# Altium schematic symbol library IC.SchLib: 68 symbols
Pins are listed as number, name and electrical type; pins without a type are passive.

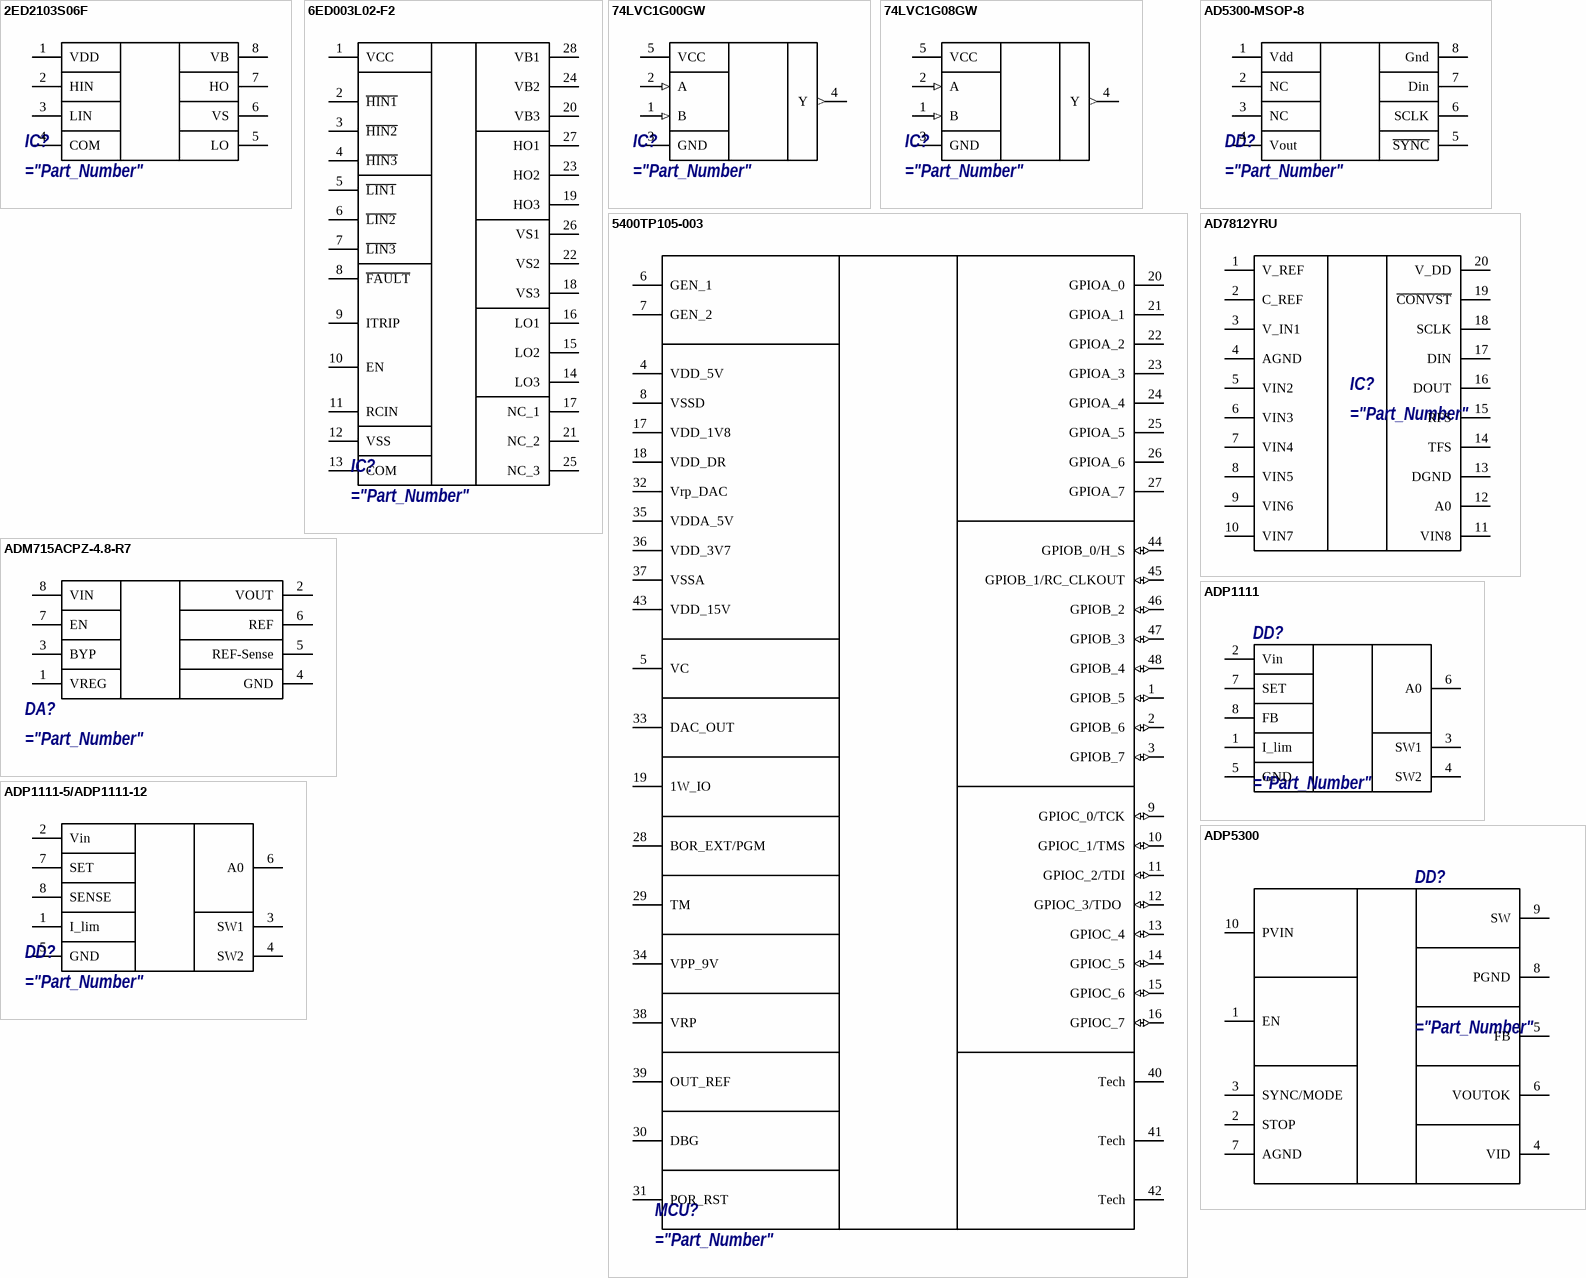
[diagram p0: symbols 2ED2103S06F to ADP5300]

## 2ED2103S06F
designator IC?
="Description"
pins: 1 VDD, 2 HIN, 3 LIN, 4 COM, 5 LO, 6 VS, 7 HO, 8 VB

## 6ED003L02-F2
designator IC?
="Description"
pins: 1 VCC, 2 ~{HIN1}, 3 ~{HIN2}, 4 ~{HIN3}, 5 ~{LIN1}, 6 ~{LIN2}, 7 ~{LIN3}, 8 ~{FAULT}, 9 ITRIP, 10 EN, 11 RCIN, 12 VSS, 13 COM, 14 LO3, 15 LO2, 16 LO1, 17 NC_1, 18 VS3, 19 HO3, 20 VB3, 21 NC_2, 22 VS2, 23 HO2, 24 VB2, 25 NC_3, 26 VS1, 27 HO1, 28 VB1

## 74LVC1G00GW
designator IC?
="Description"
pins: 1 B (in), 2 A (in), 3 GND (power), 4 Y (out), 5 VCC (power)

## 74LVC1G08GW
designator IC?
="Description"
pins: 1 B (in), 2 A (in), 3 GND (power), 4 Y (out), 5 VCC (power)

## 5400ТР105-003
designator MCU?
="Description"
pins: 1 GPIOB_5 (io) "Порт ввода-вывода микроконтроллера, группы  Б", 2 GPIOB_6 (io) "Порт ввода-вывода микроконтроллера, группы  Б", 3 GPIOB_7 (io) "Порт ввода-вывода микроконтроллера, группы  Б", 4 VDD_5V (power) "Вывод цифрового положительного напряжения питания", 5 VC "Вывод блока ФАПЧ для подключения RC-фильтра", 6 GEN_1 "Вход подключения кварцевого резонатора/вход для подачи внешней тактовой частоты", 7 GEN_2 "Вход подключения кварцевого резонатора/вход для подачи внешней тактовой частоты", 8 VSSD "Вывод цифрового отрицательного напряжения питания", 9 GPIOC_0/TCK (io) "Порт ввода-вывода микроконтроллера, группы  С", 10 GPIOC_1/TMS (io) "Порт ввода-вывода микроконтроллера, группы  С", 11 GPIOC_2/TDI (io) "Порт ввода-вывода микроконтроллера, группы  С", 12 GPIOC_3/TDO  (io) "Порт ввода-вывода микроконтроллера, группы  С", 13 GPIOC_4 (io) "Порт ввода-вывода микроконтроллера, группы  С", 14 GPIOC_5 (io) "Порт ввода-вывода микроконтроллера, группы  С", 15 GPIOC_6 (io) "Порт ввода-вывода микроконтроллера, группы  С", 16 GPIOC_7 (io) "Порт ввода-вывода микроконтроллера, группы  С", 17 VDD_1V8 "Вывод напряжения питания ядра (выходное напряжение L O-регулятора 5,0 В –> 1,8 В)", 18 VDD_DR "Вывод положительного напряжения питания универсальных портов ввода-вывода микроконтроллера 1,8 В – 5,0 В", 19 1W_IO "Вывод интерфейса 1-Wire", 20 GPIOA_0 "Порт ввода-вывода микроконтроллера, группы  А", 21 GPIOA_1 "Порт ввода-вывода микроконтроллера, группы  А", 22 GPIOA_2 "Порт ввода-вывода микроконтроллера, группы  А", 23 GPIOA_3 "Порт ввода-вывода микроконтроллера, группы  А", 24 GPIOA_4 "Порт ввода-вывода микроконтроллера, группы  А", 25 GPIOA_5 "Порт ввода-вывода микроконтроллера, группы  А", 26 GPIOA_6 "Порт ввода-вывода микроконтроллера, группы  А", 27 GPIOA_7 "Порт ввода-вывода микроконтроллера, группы  А", 28 BOR_EXT/PGM "Вход внешнего супервизора питания", 29 TM "Вход для выбора режима работы микроконтроллера", 30 DBG, 31 POR_RST "Вход для подключения внешнего конденсатора блока сброса", 32 Vrp_DAC "Вывод положительного опорного напряжения ЦАП", 33 DAC_OUT "Выход ЦАП", 34 VPP_9V "Вывод для программирования П У и конфигурационной памяти 9,0 В", 35 VDDA_5V "выходное напряжение L O-регулятора 15 В –> 5,0 В", 36 VDD_3V7 "Вывод положительного напряжения питания RC-генератора", 37 VSSA "Вывод аналогового отрицательного напряжения питания", 38 VRP "Выход масштабирующего ОУ (если ОУ включен в ходе настройки", 39 OUT_REF "Выходное напряжение ИОН в тестовом режиме", 40 Tech "Технологический вывод", 41 Tech "Технологический вывод", 42 Tech "Технологический вывод", 43 VDD_15V "Вывод положительного напряжения питания 15 В", 44 GPIOB_0/H_S (io) "Порт ввода-вывода микроконтроллера, группы  Б", 45 GPIOB_1/RC_CLKOUT (io) "Порт ввода-вывода микроконтроллера, группы  Б", 46 GPIOB_2 (io) "Порт ввода-вывода микроконтроллера, группы  Б", 47 GPIOB_3 (io) "Порт ввода-вывода микроконтроллера, группы  Б", 48 GPIOB_4 (io) "Порт ввода-вывода микроконтроллера, группы  Б"

## AD5300-MSOP-8
designator DD?
="Description"
simulation model Model Name (Model Description)
pins: 1 Vdd, 2 NC, 3 NC, 4 Vout, 5 ~{SYNC}, 6 SCLK, 7 Din, 8 Gnd

## AD7812YRU
designator IC?
="Description"
pins: 1 V_REF, 2 C_REF, 3 V_IN1, 4 AGND, 5 VIN2, 6 VIN3, 7 VIN4, 8 VIN5, 9 VIN6, 10 VIN7, 11 VIN8, 12 A0, 13 DGND, 14 TFS, 15 RFS, 16 DOUT, 17 DIN, 18 SCLK, 19 ~{CONVST}, 20 V_DD

## ADM715ACPZ-4.8-R7
designator DA?
="Description"
pins: 1 VREG, 2 VOUT, 3 BYP, 4 GND, 5 REF-Sense, 6 REF, 7 EN, 8 VIN

## ADP1111
designator DD?
="Description"
pins: 1 I_lim, 2 Vin, 3 SW1, 4 SW2, 5 GND, 6 A0, 7 SET, 8 FB

## ADP1111-5/ADP1111-12
designator DD?
="Description"
pins: 1 I_lim, 2 Vin, 3 SW1, 4 SW2, 5 GND, 6 A0, 7 SET, 8 SENSE

## ADP5300
designator DD?
="Description"
pins: 1 EN, 2 STOP, 3 SYNC/MODE, 4 VID, 5 FB, 6 VOUTOK, 7 AGND, 8 PGND, 9 SW, 10 PVIN

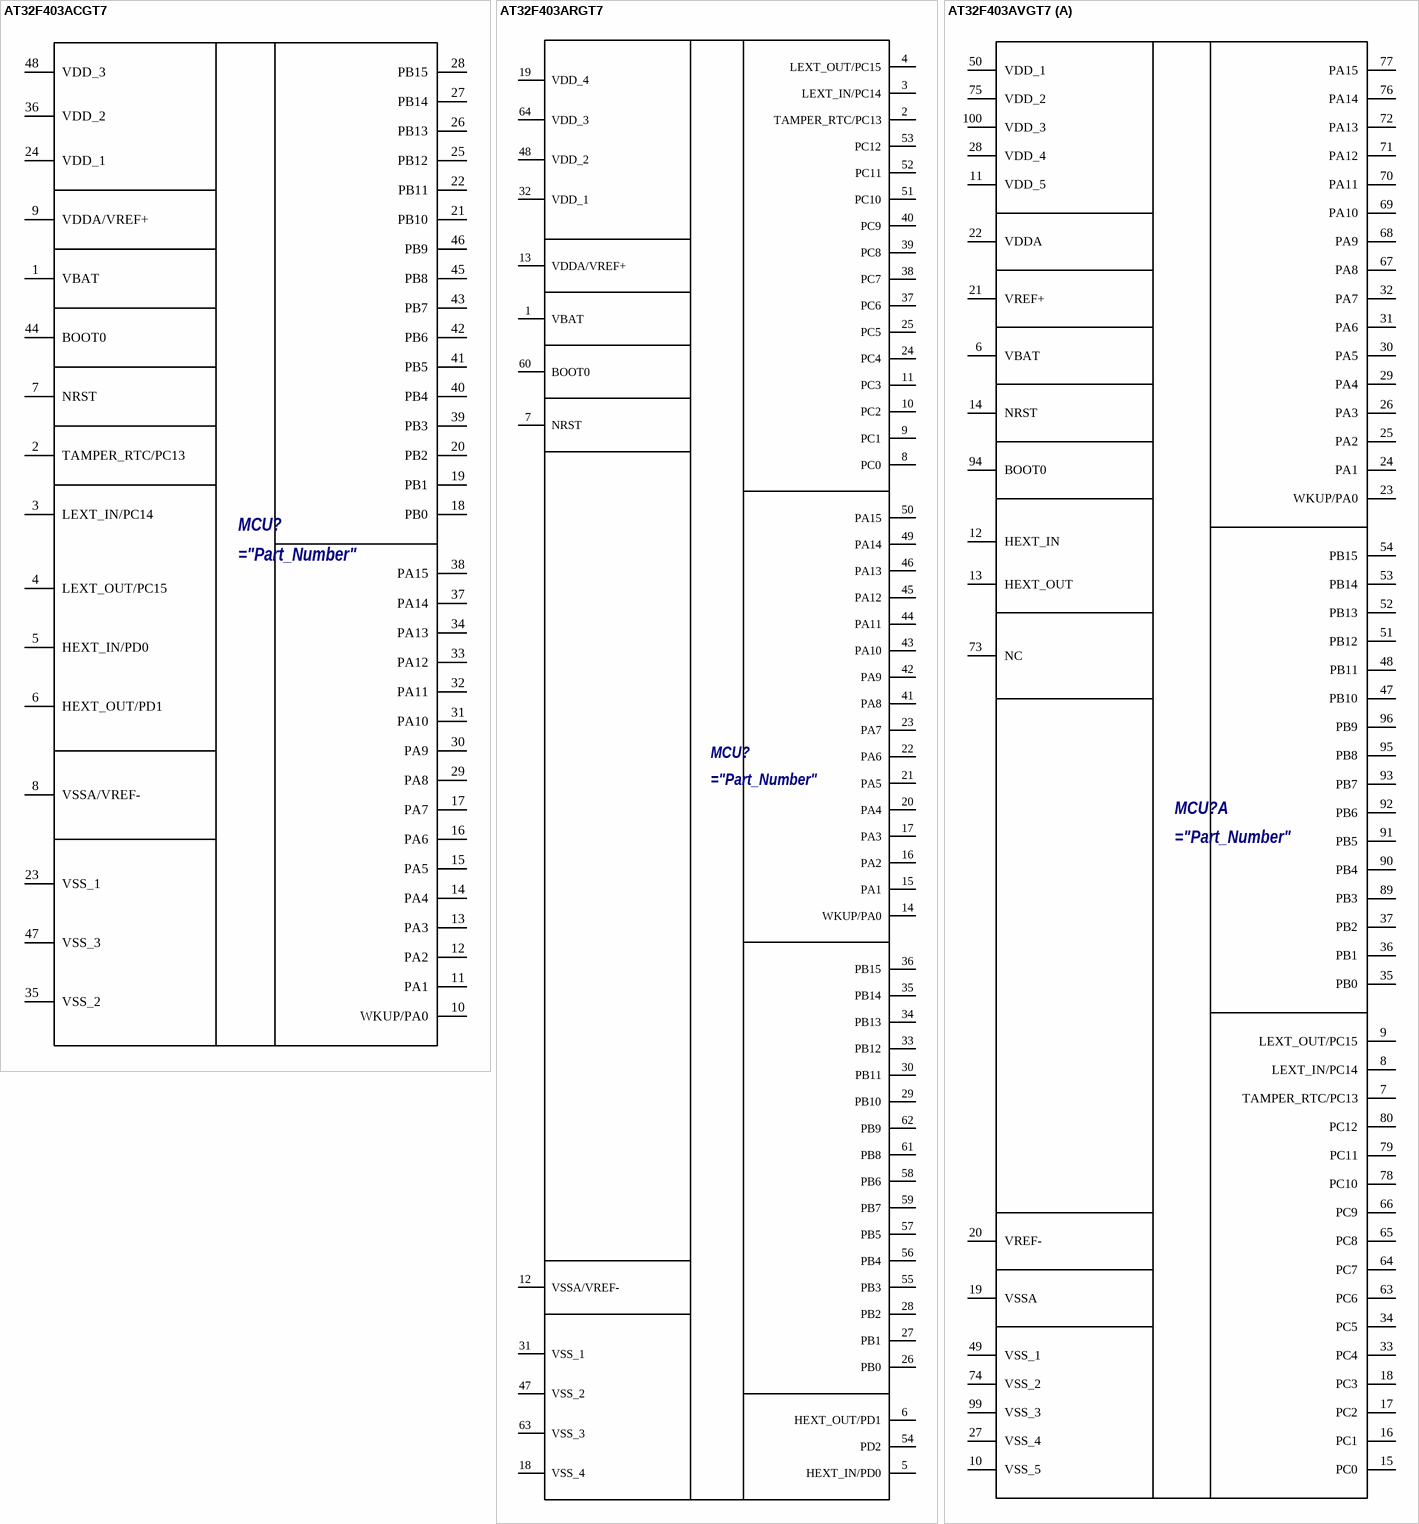
[diagram p1: symbols AT32F403ACGT7 to AT32F403AVGT7]

## AT32F403ACGT7
designator MCU?
="Description"
pins: 1 VBAT, 2 TAMPER_RTC/PC13, 3 LEXT_IN/PC14, 4 LEXT_OUT/PC15, 5 HEXT_IN/PD0, 6 HEXT_OUT/PD1, 7 NRST, 8 VSSA/VREF-, 9 VDDA/VREF+, 10 WKUP/PA0, 11 PA1, 12 PA2, 13 PA3, 14 PA4, 15 PA5, 16 PA6, 17 PA7, 18 PB0, 19 PB1, 20 PB2, 21 PB10, 22 PB11, 23 VSS_1, 24 VDD_1, 25 PB12, 26 PB13, 27 PB14, 28 PB15, 29 PA8, 30 PA9, 31 PA10, 32 PA11, 33 PA12, 34 PA13, 35 VSS_2, 36 VDD_2, 37 PA14, 38 PA15, 39 PB3, 40 PB4, 41 PB5, 42 PB6, 43 PB7, 44 BOOT0, 45 PB8, 46 PB9, 47 VSS_3, 48 VDD_3

## AT32F403ARGT7
designator MCU?
="Description"
pins: 1 VBAT, 2 TAMPER_RTC/PC13, 3 LEXT_IN/PC14, 4 LEXT_OUT/PC15, 5 HEXT_IN/PD0, 6 HEXT_OUT/PD1, 7 NRST, 8 PC0, 9 PC1, 10 PC2, 11 PC3, 12 VSSA/VREF-, 13 VDDA/VREF+, 14 WKUP/PA0, 15 PA1, 16 PA2, 17 PA3, 18 VSS_4, 19 VDD_4, 20 PA4, 21 PA5, 22 PA6, 23 PA7, 24 PC4, 25 PC5, 26 PB0, 27 PB1, 28 PB2, 29 PB10, 30 PB11, 31 VSS_1, 32 VDD_1, 33 PB12, 34 PB13, 35 PB14, 36 PB15, 37 PC6, 38 PC7, 39 PC8, 40 PC9, 41 PA8, 42 PA9, 43 PA10, 44 PA11, 45 PA12, 46 PA13, 47 VSS_2, 48 VDD_2, 49 PA14, 50 PA15, 51 PC10, 52 PC11, 53 PC12, 54 PD2, 55 PB3, 56 PB4, 57 PB5, 58 PB6, 59 PB7, 60 BOOT0, 61 PB8, 62 PB9, 63 VSS_3, 64 VDD_3

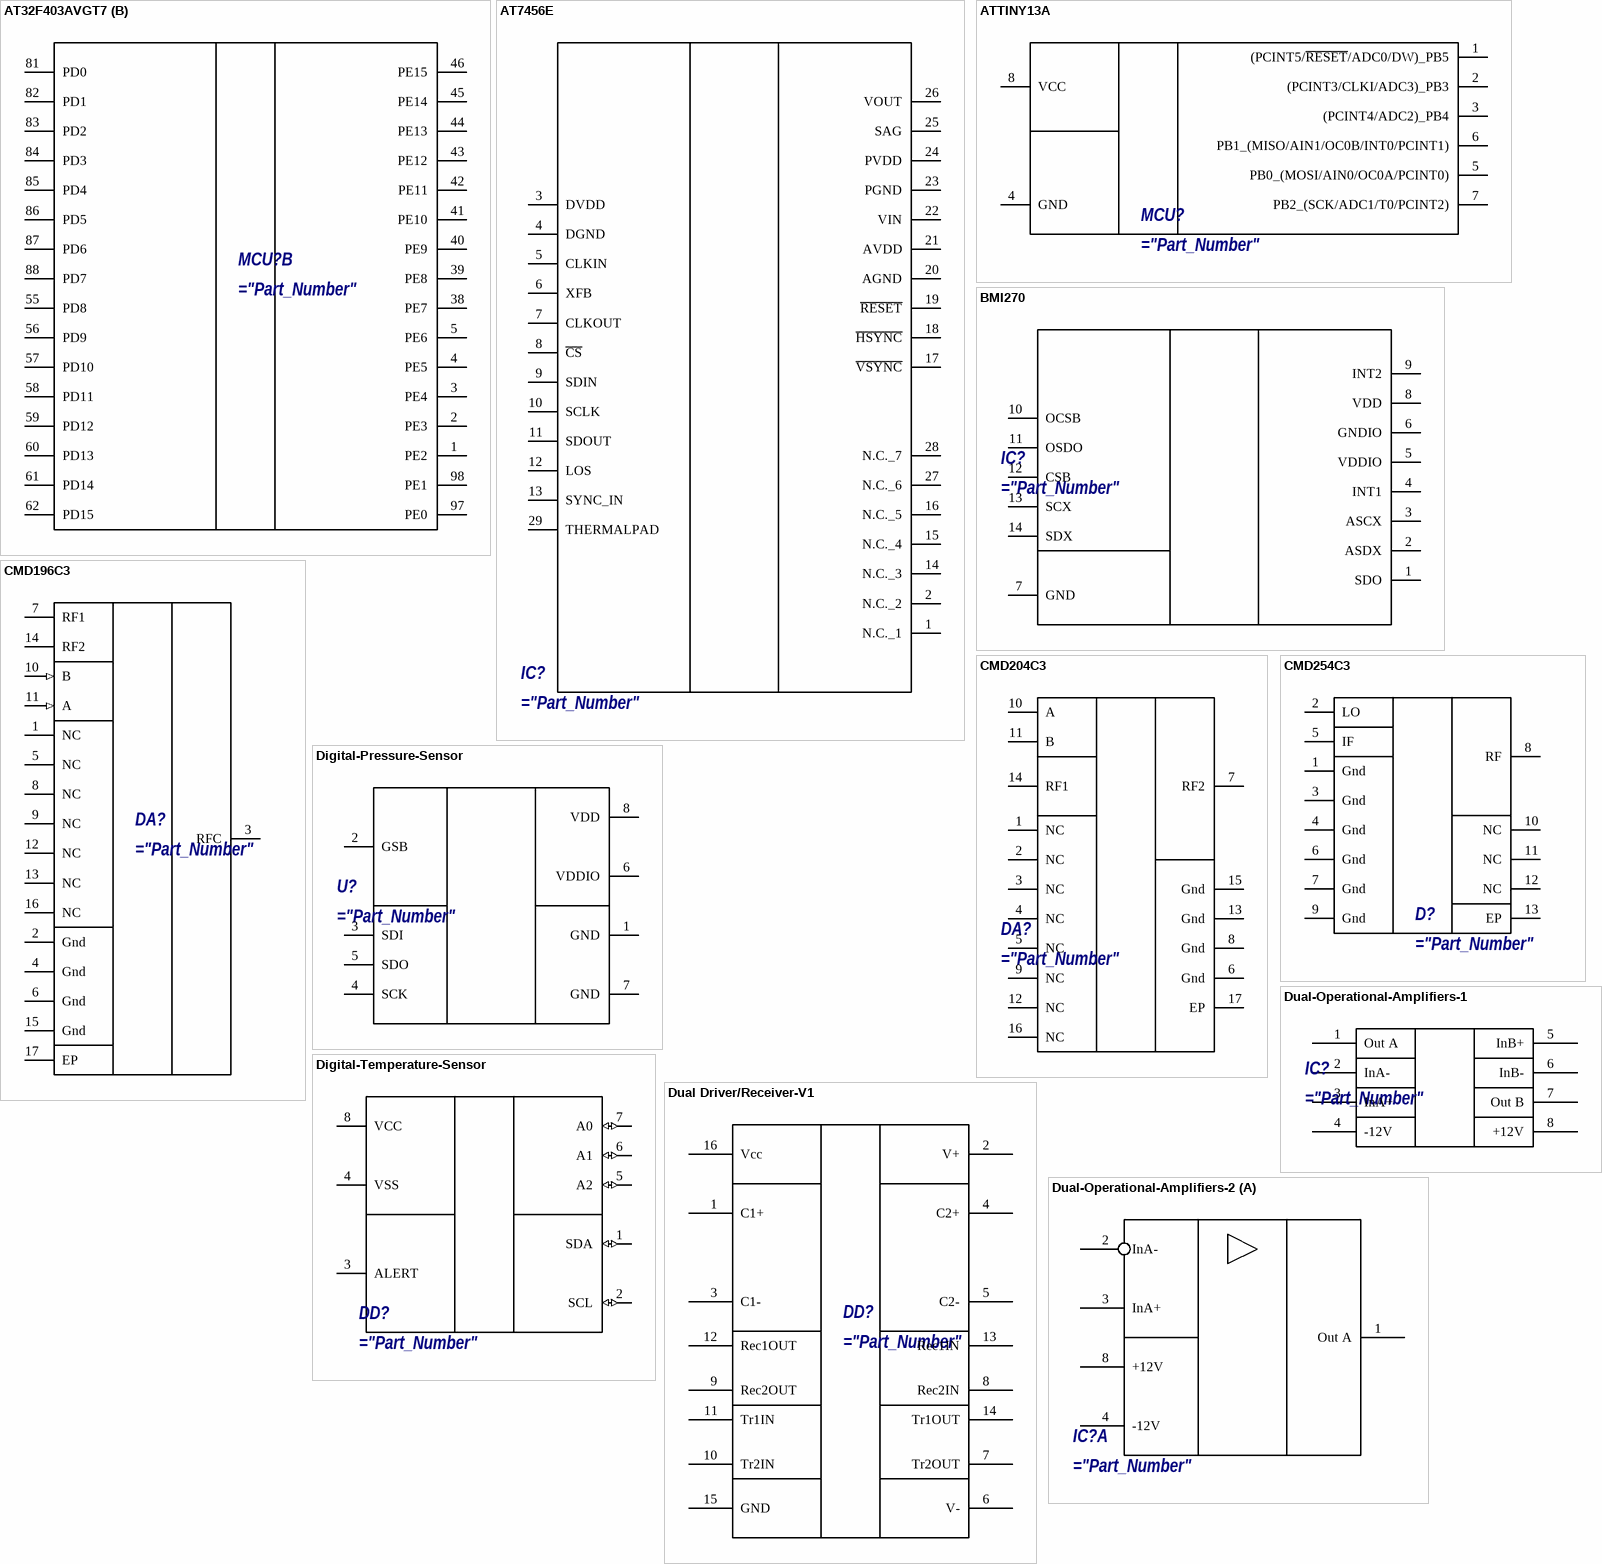
[diagram p2: symbols AT32F403AVGT7 to Dual-Operational-Amplifiers-2]

## AT32F403AVGT7
designator MCU?
="Description"
part A pins: 6 VBAT, 7 TAMPER_RTC/PC13, 8 LEXT_IN/PC14, 9 LEXT_OUT/PC15, 10 VSS_5, 11 VDD_5, 12 HEXT_IN, 13 HEXT_OUT, 14 NRST, 15 PC0, 16 PC1, 17 PC2, 18 PC3, 19 VSSA, 20 VREF-, 21 VREF+, 22 VDDA, 23 WKUP/PA0, 24 PA1, 25 PA2, 26 PA3, 27 VSS_4, 28 VDD_4, 29 PA4, 30 PA5, 31 PA6, 32 PA7, 33 PC4, 34 PC5, 35 PB0, 36 PB1, 37 PB2, 47 PB10, 48 PB11, 49 VSS_1, 50 VDD_1, 51 PB12, 52 PB13, 53 PB14, 54 PB15, 63 PC6, 64 PC7, 65 PC8, 66 PC9, 67 PA8, 68 PA9, 69 PA10, 70 PA11, 71 PA12, 72 PA13, 73 NC, 74 VSS_2, 75 VDD_2, 76 PA14, 77 PA15, 78 PC10, 79 PC11, 80 PC12, 89 PB3, 90 PB4, 91 PB5, 92 PB6, 93 PB7, 94 BOOT0, 95 PB8, 96 PB9, 99 VSS_3, 100 VDD_3
part B pins: 1 PE2, 2 PE3, 3 PE4, 4 PE5, 5 PE6, 38 PE7, 39 PE8, 40 PE9, 41 PE10, 42 PE11, 43 PE12, 44 PE13, 45 PE14, 46 PE15, 55 PD8, 56 PD9, 57 PD10, 58 PD11, 59 PD12, 60 PD13, 61 PD14, 62 PD15, 81 PD0, 82 PD1, 83 PD2, 84 PD3, 85 PD4, 86 PD5, 87 PD6, 88 PD7, 97 PE0, 98 PE1

## AT7456E
designator IC?
="Description"
pins: 1 N.C._1, 2 N.C._2, 3 DVDD, 4 DGND, 5 CLKIN, 6 XFB, 7 CLKOUT, 8 ~{CS}, 9 SDIN, 10 SCLK, 11 SDOUT, 12 LOS, 13 SYNC_IN, 14 N.C._3, 15 N.C._4, 16 N.C._5, 17 ~{VSYNC}, 18 ~{HSYNC}, 19 ~{RESET}, 20 AGND, 21 AVDD, 22 VIN, 23 PGND, 24 PVDD, 25 SAG, 26 VOUT, 27 N.C._6, 28 N.C._7, 29 THERMALPAD

## ATTINY13A
designator MCU?
="Description"
pins: 1 (PCINT5/~{RESET}/ADC0/DW)_PB5, 2 (PCINT3/CLKI/ADC3)_PB3, 3 (PCINT4/ADC2)_PB4, 4 GND, 5 PB0_(MOSI/AIN0/OC0A/PCINT0), 6 PB1_(MISO/AIN1/OC0B/INT0/PCINT1), 7 PB2_(SCK/ADC1/T0/PCINT2), 8 VCC

## BMI270
designator IC?
="Description"
pins: 1 SDO, 2 ASDX, 3 ASCX, 4 INT1, 5 VDDIO, 6 GNDIO, 7 GND, 8 VDD, 9 INT2, 10 OCSB, 11 OSDO, 12 CSB, 13 SCX, 14 SDX

## CMD196C3
designator DA?
="Description"
pins: 1 NC, 2 Gnd, 3 RFC, 4 Gnd, 5 NC, 6 Gnd, 7 RF1, 8 NC, 9 NC, 10 B (in), 11 A (in), 12 NC, 13 NC, 14 RF2, 15 Gnd, 16 NC, 17 EP

## CMD204C3
designator DA?
="Description"
pins: 1 NC, 2 NC, 3 NC, 4 NC, 5 NC, 6 Gnd, 7 RF2, 8 Gnd, 9 NC, 10 A, 11 B, 12 NC, 13 Gnd, 14 RF1, 15 Gnd, 16 NC, 17 EP

## CMD254C3
designator D?
="Description"
pins: 1 Gnd, 2 LO, 3 Gnd, 4 Gnd, 5 IF, 6 Gnd, 7 Gnd, 8 RF, 9 Gnd, 10 NC, 11 NC, 12 NC, 13 EP

## Digital-Pressure-Sensor
designator U?
="Description"
pins: 1 GND, 2 GSB, 3 SDI, 4 SCK, 5 SDO, 6 VDDIO, 7 GND, 8 VDD

## Digital-Temperature-Sensor
designator DD?
="Description"
pins: 1 SDA (io), 2 SCL (io), 3 ALERT, 4 VSS, 5 A2 (io), 6 A1 (io), 7 A0 (io), 8 VCC

## Dual Driver/Receiver-V1
designator DD?
="Description"
pins: 1 C1+, 2 V+, 3 C1-, 4 C2+, 5 C2-, 6 V-, 7 Tr2OUT, 8 Rec2IN, 9 Rec2OUT, 10 Tr2IN, 11 Tr1IN, 12 Rec1OUT, 13 Rec1IN, 14 Tr1OUT, 15 GND, 16 Vcc

## Dual-Operational-Amplifiers-1
designator IC?
="Description"
pins: 1 Out A, 2 InA-, 3 InA+, 4 -12V, 5 InB+, 6 InB-, 7 Out B, 8 +12V

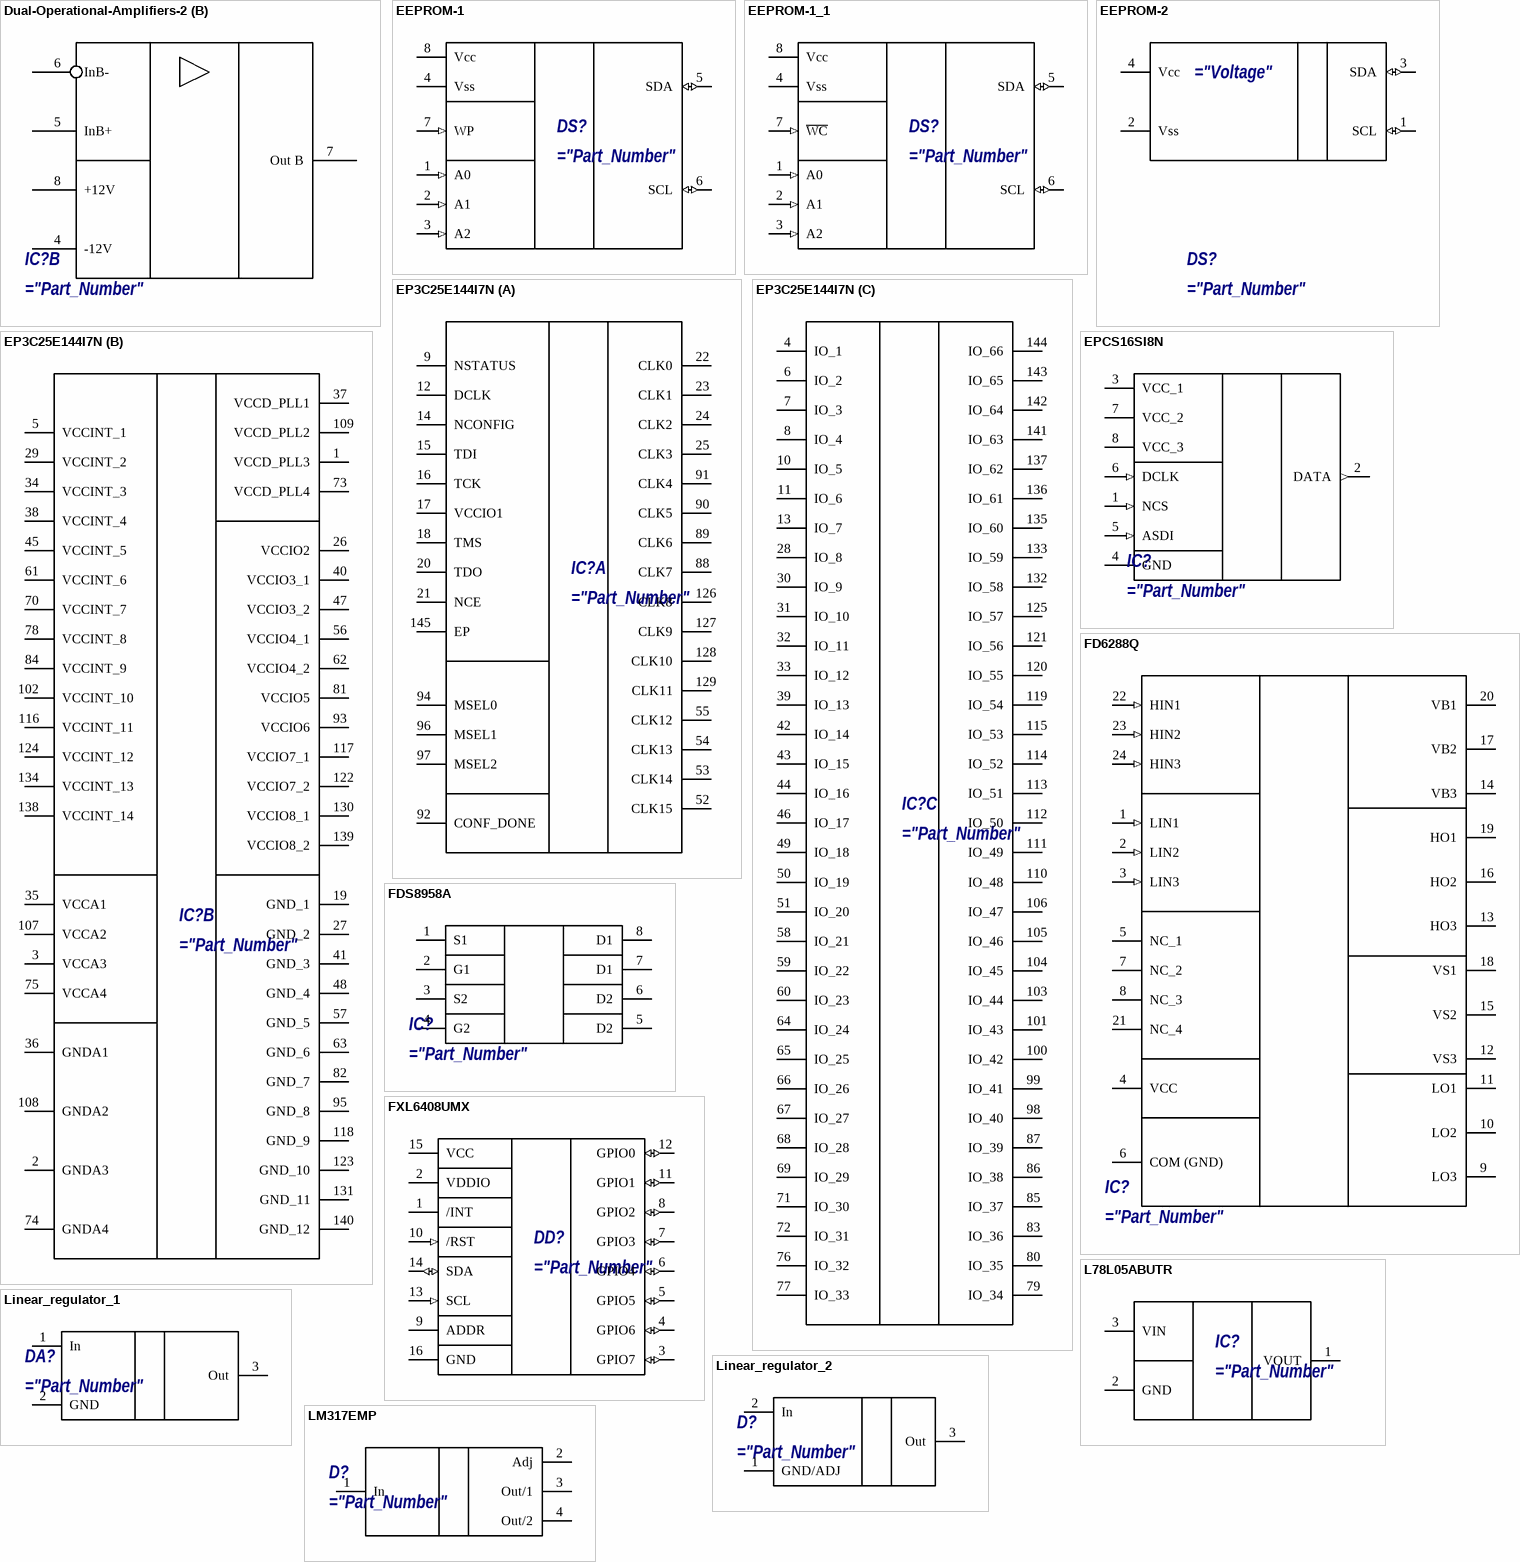
[diagram p3: symbols Dual-Operational-Amplifiers-2 to LM317EMP]

## Dual-Operational-Amplifiers-2
designator IC?
="Description"
part A pins: 1 Out A, 2 InA-, 3 InA+, 4 -12V, 8 +12V
part B pins: 4 -12V, 5 InB+, 6 InB-, 7 Out B, 8 +12V

## EEPROM-1
designator DS?
="Description"
pins: 1 A0 (in), 2 A1 (in), 3 A2 (in), 4 Vss, 5 SDA (io), 6 SCL (io), 7 WP (in), 8 Vcc

## EEPROM-1_1
designator DS?
="Description"
pins: 1 A0 (in), 2 A1 (in), 3 A2 (in), 4 Vss, 5 SDA (io), 6 SCL (io), 7 ~{WC} (in), 8 Vcc

## EEPROM-2
designator DS?
="Description"
pins: 1 SCL (io), 2 Vss, 3 SDA (io), 4 Vcc

## EP3C25E144I7N
designator IC?
="Description"
part A pins: 9 NSTATUS, 12 DCLK, 14 NCONFIG, 15 TDI, 16 TCK, 17 VCCIO1, 18 TMS, 20 TDO, 21 NCE, 22 CLK0, 23 CLK1, 24 CLK2, 25 CLK3, 52 CLK15, 53 CLK14, 54 CLK13, 55 CLK12, 88 CLK7, 89 CLK6, 90 CLK5, 91 CLK4, 92 CONF_DONE, 94 MSEL0, 96 MSEL1, 97 MSEL2, 126 CLK8, 127 CLK9, 128 CLK10, 129 CLK11, 145 EP
part B pins: 1 VCCD_PLL3, 2 GNDA3, 3 VCCA3, 5 VCCINT_1, 19 GND_1, 26 VCCIO2, 27 GND_2, 29 VCCINT_2, 34 VCCINT_3, 35 VCCA1, 36 GNDA1, 37 VCCD_PLL1, 38 VCCINT_4, 40 VCCIO3_1, 41 GND_3, 45 VCCINT_5, 47 VCCIO3_2, 48 GND_4, 56 VCCIO4_1, 57 GND_5, 61 VCCINT_6, 62 VCCIO4_2, 63 GND_6, 70 VCCINT_7, 73 VCCD_PLL4, 74 GNDA4, 75 VCCA4, 78 VCCINT_8, 81 VCCIO5, 82 GND_7, 84 VCCINT_9, 93 VCCIO6, 95 GND_8, 102 VCCINT_10, 107 VCCA2, 108 GNDA2, 109 VCCD_PLL2, 116 VCCINT_11, 117 VCCIO7_1, 118 GND_9, 122 VCCIO7_2, 123 GND_10, 124 VCCINT_12, 130 VCCIO8_1, 131 GND_11, 134 VCCINT_13, 138 VCCINT_14, 139 VCCIO8_2, 140 GND_12
part C pins: 4 IO_1, 6 IO_2, 7 IO_3, 8 IO_4, 10 IO_5, 11 IO_6, 13 IO_7, 28 IO_8, 30 IO_9, 31 IO_10, 32 IO_11, 33 IO_12, 39 IO_13, 42 IO_14, 43 IO_15, 44 IO_16, 46 IO_17, 49 IO_18, 50 IO_19, 51 IO_20, 58 IO_21, 59 IO_22, 60 IO_23, 64 IO_24, 65 IO_25, 66 IO_26, 67 IO_27, 68 IO_28, 69 IO_29, 71 IO_30, 72 IO_31, 76 IO_32, 77 IO_33, 79 IO_34, 80 IO_35, 83 IO_36, 85 IO_37, 86 IO_38, 87 IO_39, 98 IO_40, 99 IO_41, 100 IO_42, 101 IO_43, 103 IO_44, 104 IO_45, 105 IO_46, 106 IO_47, 110 IO_48, 111 IO_49, 112 IO_50, 113 IO_51, 114 IO_52, 115 IO_53, 119 IO_54, 120 IO_55, 121 IO_56, 125 IO_57, 132 IO_58, 133 IO_59, 135 IO_60, 136 IO_61, 137 IO_62, 141 IO_63, 142 IO_64, 143 IO_65, 144 IO_66

## EPCS16SI8N
designator IC?
="Description"
pins: 1 NCS (in), 2 DATA (out), 3 VCC_1, 4 GND, 5 ASDI (in), 6 DCLK (in), 7 VCC_2, 8 VCC_3

## FD6288Q
designator IC?
="Description"
pins: 1 LIN1 (in), 2 LIN2 (in), 3 LIN3 (in), 4 VCC (power), 5 NC_1, 6 COM (GND) (power), 7 NC_2, 8 NC_3, 9 LO3, 10 LO2, 11 LO1, 12 VS3, 13 HO3, 14 VB3, 15 VS2, 16 HO2, 17 VB2, 18 VS1, 19 HO1, 20 VB1, 21 NC_4, 22 HIN1 (in), 23 HIN2 (in), 24 HIN3 (in)

## FDS8958A
designator IC?
="Description"
pins: 1 S1, 2 G1, 3 S2, 4 G2, 5 D2, 6 D2, 7 D1, 8 D1

## FXL6408UMX
designator DD?
="Description"
pins: 1 /INT, 2 VDDIO, 3 GPIO7 (io), 4 GPIO6 (io), 5 GPIO5 (io), 6 GPIO4 (io), 7 GPIO3 (io), 8 GPIO2 (io), 9 ADDR, 10 /RST (in), 11 GPIO1 (io), 12 GPIO0 (io), 13 SCL (in), 14 SDA (io), 15 VCC (power), 16 GND (power)

## L78L05ABUTR
designator IC?
="Description"
pins: 1 VOUT, 2 GND, 3 VIN

## Linear_regulator_1
designator DA?
="Description"
pins: 1 In, 2 GND, 3 Out

## Linear_regulator_2
designator D?
="Description"
pins: 1 GND/ADJ, 2 In, 3 Out

## LM317EMP
designator D?
="Description"
pins: 1 In, 2 Adj, 3 Out/1, 4 Out/2

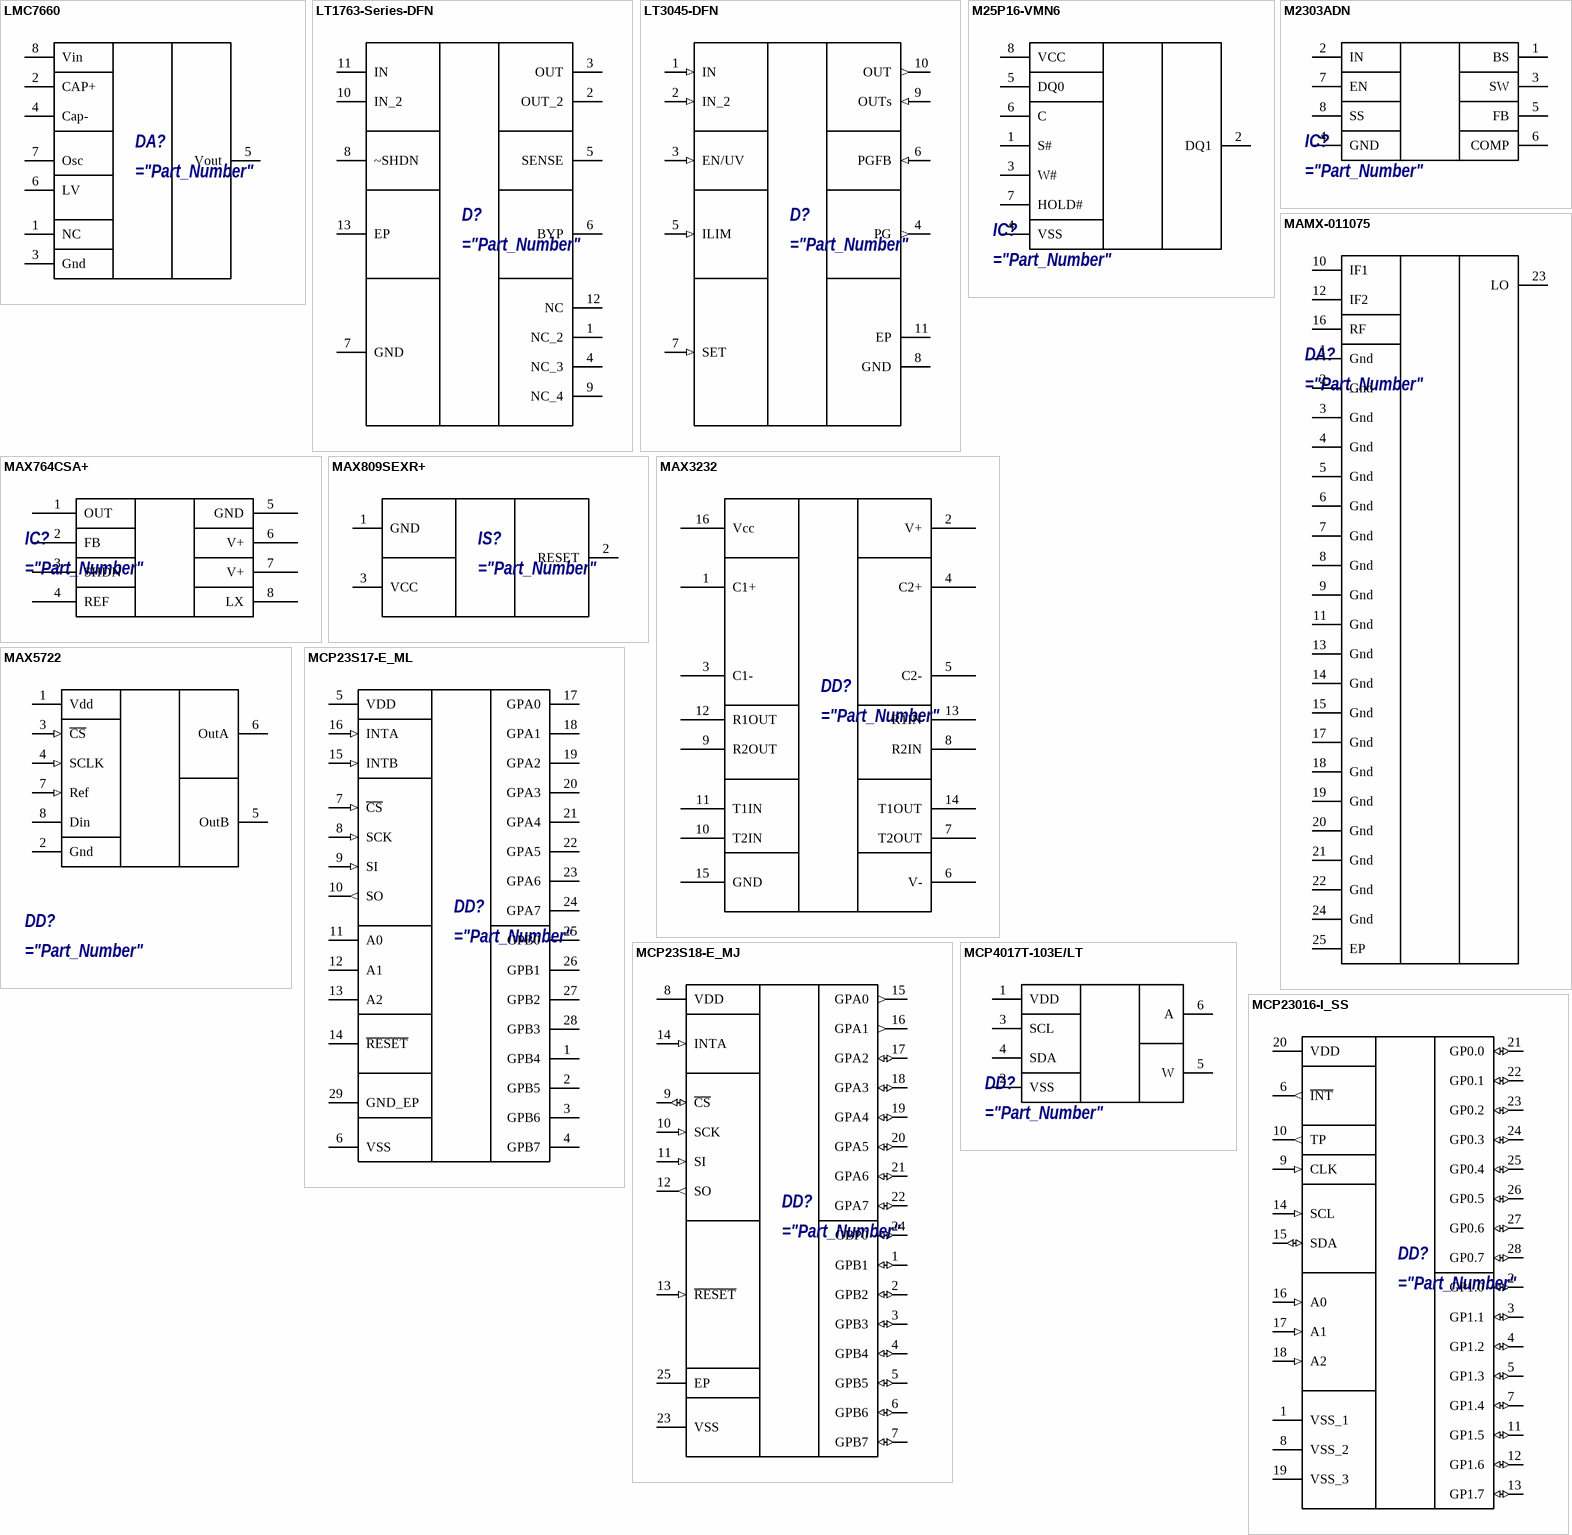
[diagram p4: symbols LMC7660 to MCP23016-I_SS]

## LMC7660
designator DA?
="Description"
simulation model Model Name (Model Description)
pins: 1 NC, 2 CAP+, 3 Gnd, 4 Cap-, 5 Vout, 6 LV, 7 Osc, 8 Vin

## LT1763-Series-DFN
designator D?
="Description"
pins: 1 NC_2, 2 OUT_2, 3 OUT, 4 NC_3, 5 SENSE, 6 BYP, 7 GND, 8 ~SHDN, 9 NC_4, 10 IN_2, 11 IN, 12 NC, 13 EP

## LT3045-DFN
designator D?
="Description"
pins: 1 IN (in), 2 IN_2 (in), 3 EN/UV (in), 4 PG (out), 5 ILIM (in), 6 PGFB (in), 7 SET (in), 8 GND, 9 OUTs (in), 10 OUT (out), 11 EP

## M25P16-VMN6
designator IC?
="Description"
pins: 1 S#, 2 DQ1, 3 W#, 4 VSS, 5 DQ0, 6 C, 7 HOLD#, 8 VCC

## M2303ADN
designator IC?
="Description"
pins: 1 BS, 2 IN, 3 SW, 4 GND, 5 FB, 6 COMP, 7 EN, 8 SS

## MAMX-011075
designator DA?
="Description"
pins: 1 Gnd, 2 Gnd, 3 Gnd, 4 Gnd, 5 Gnd, 6 Gnd, 7 Gnd, 8 Gnd, 9 Gnd, 10 IF1, 11 Gnd, 12 IF2, 13 Gnd, 14 Gnd, 15 Gnd, 16 RF, 17 Gnd, 18 Gnd, 19 Gnd, 20 Gnd, 21 Gnd, 22 Gnd, 23 LO, 24 Gnd, 25 EP

## MAX764CSA+
designator IC?
="Description"
pins: 1 OUT, 2 FB, 3 SHDN, 4 REF, 5 GND, 6 V+, 7 V+, 8 LX

## MAX809SEXR+
designator IS?
="Description"
pins: 1 GND, 2 RESET, 3 VCC

## MAX3232
designator DD?
="Description"
pins: 1 C1+, 2 V+, 3 C1-, 4 C2+, 5 C2-, 6 V-, 7 T2OUT, 8 R2IN, 9 R2OUT, 10 T2IN, 11 T1IN, 12 R1OUT, 13 R1IN, 14 T1OUT, 15 GND, 16 Vcc

## MAX5722
designator DD?
="Description"
pins: 1 Vdd, 2 Gnd, 3 ~{CS} (in), 4 SCLK (in), 5 OutB, 6 OutA, 7 Ref (in), 8 Din

## MCP23S17-E_ML
designator DD?
="Description"
pins: 1 GPB4, 2 GPB5, 3 GPB6, 4 GPB7, 5 VDD (power), 6 VSS (power), 7 ~{CS} (in), 8 SCK (in), 9 SI (in), 10 SO (out), 11 A0, 12 A1, 13 A2, 14 ~{RESET}, 15 INTB (in), 16 INTA (in), 17 GPA0, 18 GPA1, 19 GPA2, 20 GPA3, 21 GPA4, 22 GPA5, 23 GPA6, 24 GPA7, 25 GPB0, 26 GPB1, 27 GPB2, 28 GPB3, 29 GND_EP (power)

## MCP23S18-E_MJ
designator DD?
="Description"
pins: 1 GPB1 (io), 2 GPB2 (io), 3 GPB3 (io), 4 GPB4 (io), 5 GPB5 (io), 6 GPB6 (io), 7 GPB7 (io), 8 VDD (oe), 9 ~{CS} (io), 10 SCK (in), 11 SI (in), 12 SO (out), 13 ~{RESET} (in), 14 INTA (in), 15 GPA0 (out), 16 GPA1 (out), 17 GPA2 (io), 18 GPA3 (io), 19 GPA4 (io), 20 GPA5 (io), 21 GPA6 (io), 22 GPA7 (io), 23 VSS (power), 24 GBP0 (io), 25 EP

## MCP4017T-103E/LT
designator DD?
="Description"
pins: 1 VDD, 2 VSS, 3 SCL, 4 SDA, 5 W, 6 A

## MCP23016-I_SS
designator DD?
="Description"
pins: 1 VSS_1 (power), 2 GP1.0 (io), 3 GP1.1 (io), 4 GP1.2 (io), 5 GP1.3 (io), 6 ~{INT} (out), 7 GP1.4 (io), 8 VSS_2 (power), 9 CLK (in), 10 TP (out), 11 GP1.5 (io), 12 GP1.6 (io), 13 GP1.7 (io), 14 SCL (in), 15 SDA (io), 16 A0 (in), 17 A1 (in), 18 A2 (in), 19 VSS_3 (power), 20 VDD (power), 21 GP0.0 (io), 22 GP0.1 (io), 23 GP0.2 (io), 24 GP0.3 (io), 25 GP0.4 (io), 26 GP0.5 (io), 27 GP0.6 (io), 28 GP0.7 (io)

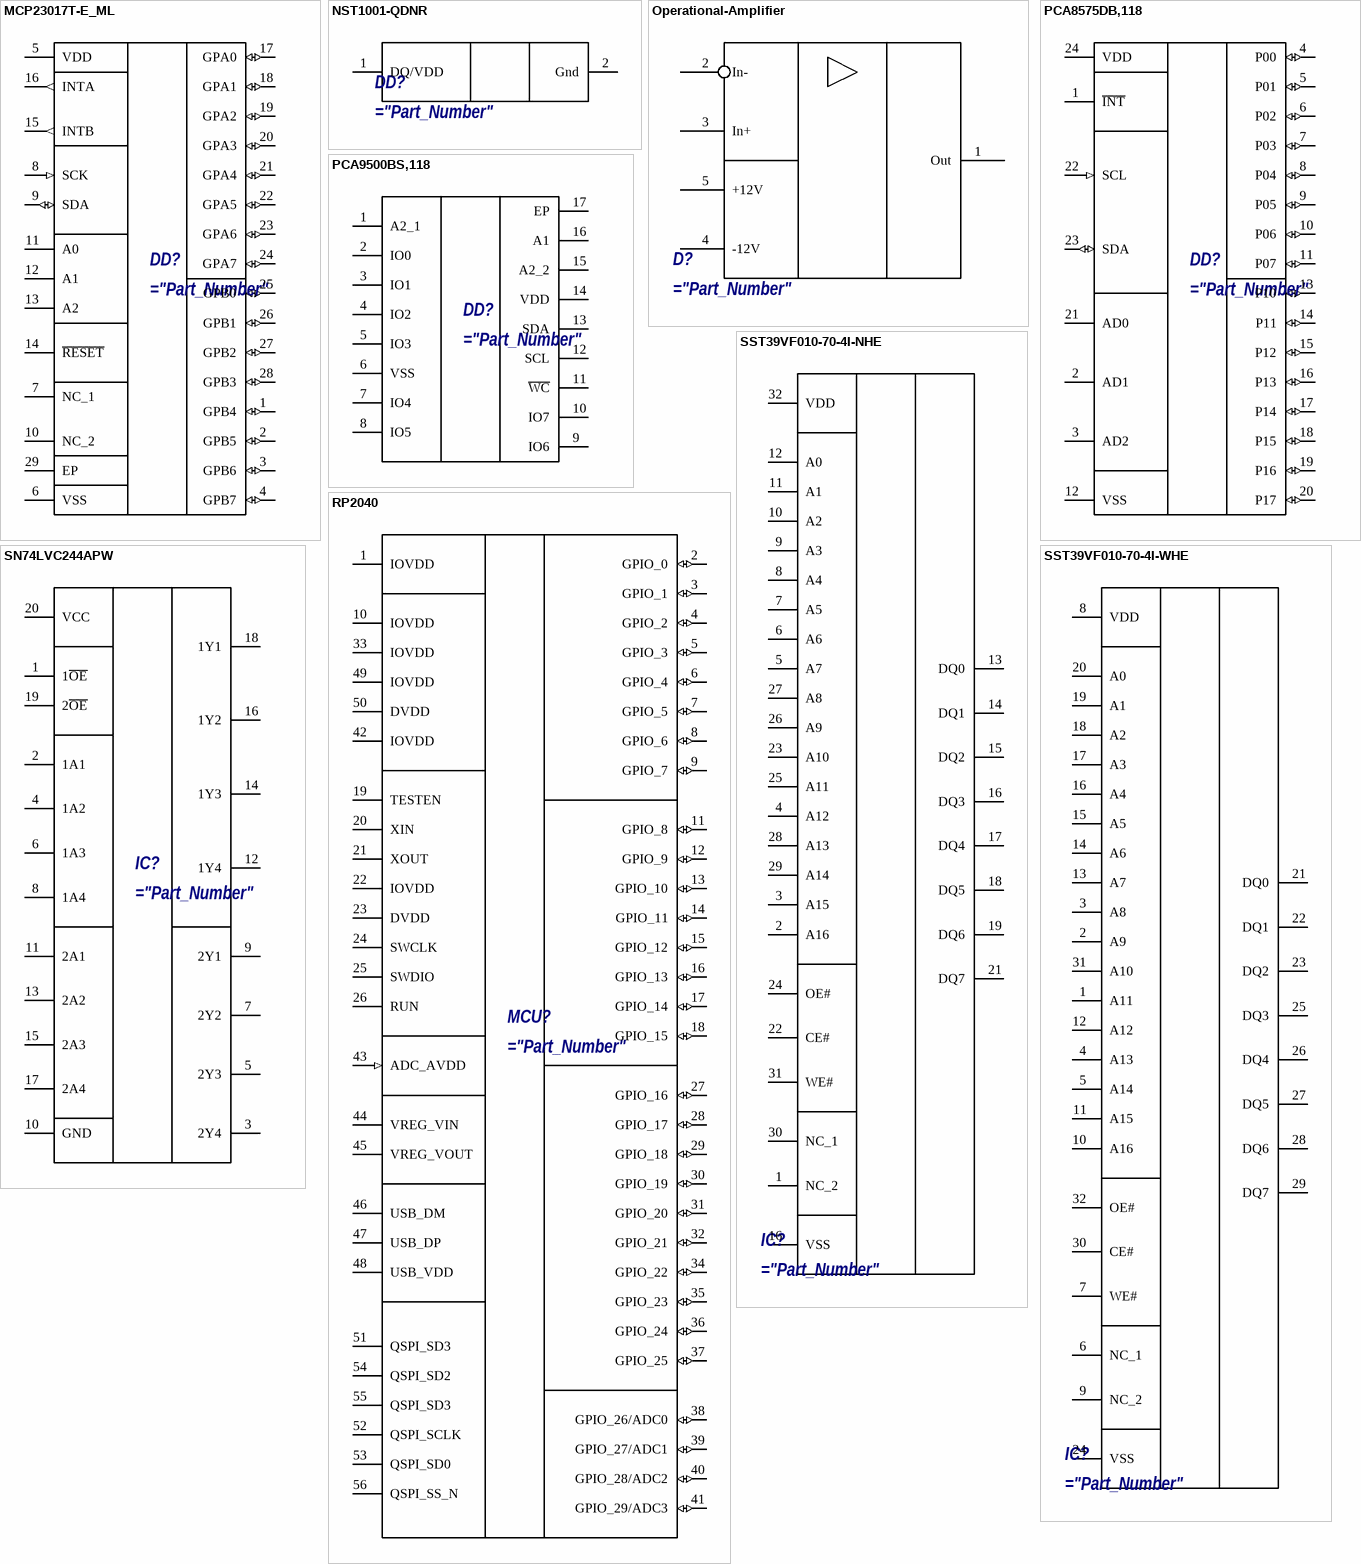
[diagram p5: symbols MCP23017T-E_ML to SST39VF010-70-4I-WHE]

## MCP23017T-E_ML
designator DD?
="Description"
pins: 1 GPB4 (io), 2 GPB5 (io), 3 GPB6 (io), 4 GPB7 (io), 5 VDD (power), 6 VSS (power), 7 NC_1, 8 SCK (in), 9 SDA (io), 10 NC_2, 11 A0, 12 A1, 13 A2, 14 ~{RESET}, 15 INTB (out), 16 INTA (out), 17 GPA0 (io), 18 GPA1 (io), 19 GPA2 (io), 20 GPA3 (io), 21 GPA4 (io), 22 GPA5 (io), 23 GPA6 (io), 24 GPA7 (io), 25 GPB0 (io), 26 GPB1 (io), 27 GPB2 (io), 28 GPB3 (io), 29 EP

## NST1001-QDNR
designator DD?
="Description"
pins: 1 DQ/VDD, 2 Gnd

## Operational-Amplifier
designator D?
="Description"
pins: 1 Out, 2 In-, 3 In+, 4 -12V, 5 +12V

## PCA8575DB,118
designator DD?
="Description"
pins: 1 ~{INT}, 2 AD1, 3 AD2, 4 P00 (io), 5 P01 (io), 6 P02 (io), 7 P03 (io), 8 P04 (io), 9 P05 (io), 10 P06 (io), 11 P07 (io), 12 VSS (power), 13 P10 (io), 14 P11 (io), 15 P12 (io), 16 P13 (io), 17 P14 (io), 18 P15 (io), 19 P16 (io), 20 P17 (io), 21 AD0, 22 SCL (in), 23 SDA (io), 24 VDD (power)

## PCA9500BS,118
designator DD?
="Description"
pins: 1 A2_1, 2 IO0, 3 IO1, 4 IO2, 5 IO3, 6 VSS, 7 IO4, 8 IO5, 9 IO6, 10 IO7, 11 ~{WC}, 12 SCL, 13 SDA, 14 VDD, 15 A2_2, 16 A1, 17 EP

## RP2040
designator MCU?
="Description" Liquidous temperature - 217
pins: 1 IOVDD (power), 2 GPIO_0 (io), 3 GPIO_1 (io), 4 GPIO_2 (io), 5 GPIO_3 (io), 6 GPIO_4 (io), 7 GPIO_5 (io), 8 GPIO_6 (io), 9 GPIO_7 (io), 10 IOVDD (power), 11 GPIO_8 (io), 12 GPIO_9 (io), 13 GPIO_10 (io), 14 GPIO_11 (io), 15 GPIO_12 (io), 16 GPIO_13 (io), 17 GPIO_14 (io), 18 GPIO_15 (io), 19 TESTEN, 20 XIN, 21 XOUT, 22 IOVDD, 23 DVDD, 24 SWCLK, 25 SWDIO, 26 RUN, 27 GPIO_16 (io), 28 GPIO_17 (io), 29 GPIO_18 (io), 30 GPIO_19 (io), 31 GPIO_20 (io), 32 GPIO_21 (io), 33 IOVDD (power), 34 GPIO_22 (io), 35 GPIO_23 (io), 36 GPIO_24 (io), 37 GPIO_25 (io), 38 GPIO_26/ADC0 (io), 39 GPIO_27/ADC1 (io), 40 GPIO_28/ADC2 (io), 41 GPIO_29/ADC3 (io), 42 IOVDD (power), 43 ADC_AVDD (in), 44 VREG_VIN, 45 VREG_VOUT, 46 USB_DM, 47 USB_DP, 48 USB_VDD, 49 IOVDD (power), 50 DVDD (power), 51 QSPI_SD3, 52 QSPI_SCLK, 53 QSPI_SD0, 54 QSPI_SD2, 55 QSPI_SD3, 56 QSPI_SS_N

## SN74LVC244APW
designator IC?
="Description"
pins: 1 1~{OE}, 2 1A1, 3 2Y4, 4 1A2, 5 2Y3, 6 1A3, 7 2Y2, 8 1A4, 9 2Y1, 10 GND, 11 2A1, 12 1Y4, 13 2A2, 14 1Y3, 15 2A3, 16 1Y2, 17 2A4, 18 1Y1, 19 2~{OE}, 20 VCC

## SST39VF010-70-4I-NHE
designator IC?
="Description"
pins: 1 NC_2, 2 A16, 3 A15, 4 A12, 5 A7, 6 A6, 7 A5, 8 A4, 9 A3, 10 A2, 11 A1, 12 A0, 13 DQ0, 14 DQ1, 15 DQ2, 16 DQ3, 16 VSS, 17 DQ4, 18 DQ5, 19 DQ6, 21 DQ7, 22 CE#, 23 A10, 24 OE#, 25 A11, 26 A9, 27 A8, 28 A13, 29 A14, 30 NC_1, 31 WE#, 32 VDD

## SST39VF010-70-4I-WHE
designator IC?
="Description"
pins: 1 A11, 2 A9, 3 A8, 4 A13, 5 A14, 6 NC_1, 7 WE#, 8 VDD, 9 NC_2, 10 A16, 11 A15, 12 A12, 13 A7, 14 A6, 15 A5, 16 A4, 17 A3, 18 A2, 19 A1, 20 A0, 21 DQ0, 22 DQ1, 23 DQ2, 24 VSS, 25 DQ3, 26 DQ4, 27 DQ5, 28 DQ6, 29 DQ7, 30 CE#, 31 A10, 32 OE#

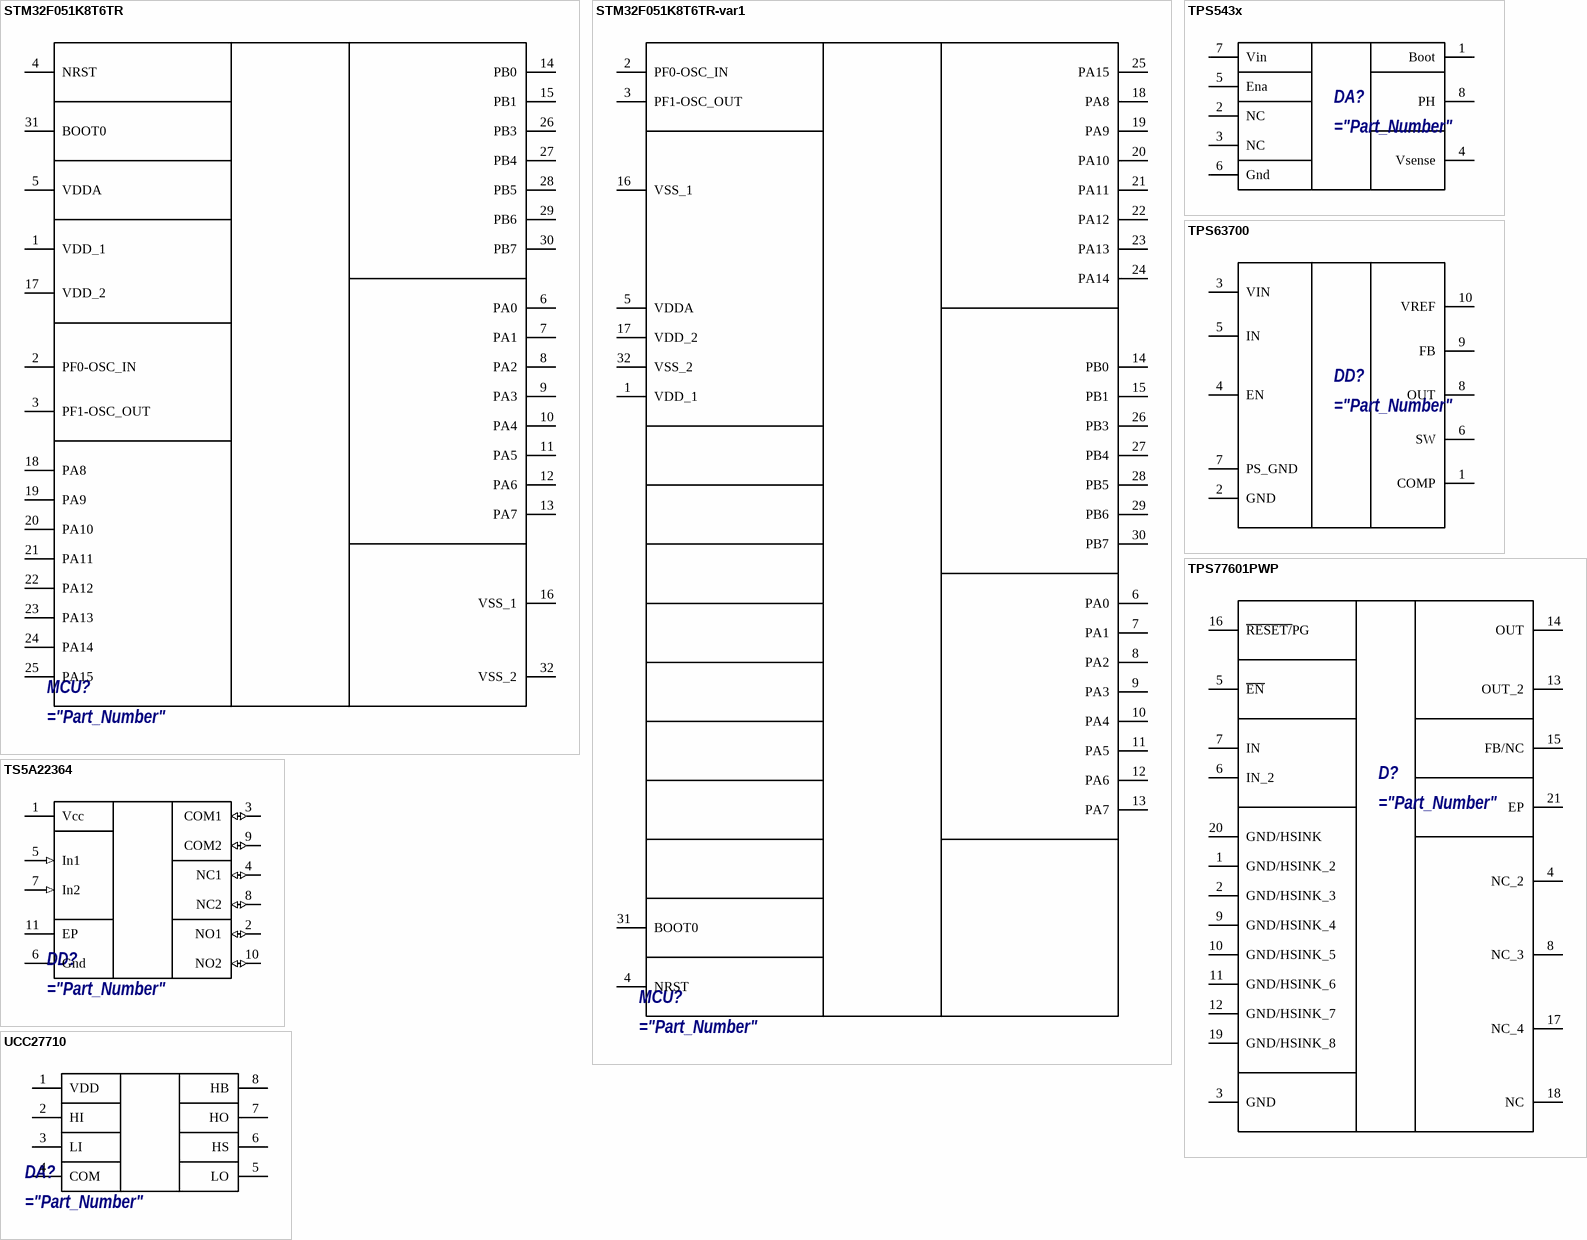
[diagram p6: symbols STM32F051K8T6TR to UCC27710]

## STM32F051K8T6TR
designator MCU?
="Description"
pins: 1 VDD_1, 2 PF0-OSC_IN, 3 PF1-OSC_OUT, 4 NRST, 5 VDDA, 6 PA0, 7 PA1, 8 PA2, 9 PA3, 10 PA4, 11 PA5, 12 PA6, 13 PA7, 14 PB0, 15 PB1, 16 VSS_1, 17 VDD_2, 18 PA8, 19 PA9, 20 PA10, 21 PA11, 22 PA12, 23 PA13, 24 PA14, 25 PA15, 26 PB3, 27 PB4, 28 PB5, 29 PB6, 30 PB7, 31 BOOT0, 32 VSS_2

## STM32F051K8T6TR-var1
designator MCU?
="Description"
pins: 1 VDD_1, 2 PF0-OSC_IN, 3 PF1-OSC_OUT, 4 NRST, 5 VDDA, 6 PA0, 7 PA1, 8 PA2, 9 PA3, 10 PA4, 11 PA5, 12 PA6, 13 PA7, 14 PB0, 15 PB1, 16 VSS_1, 17 VDD_2, 18 PA8, 19 PA9, 20 PA10, 21 PA11, 22 PA12, 23 PA13, 24 PA14, 25 PA15, 26 PB3, 27 PB4, 28 PB5, 29 PB6, 30 PB7, 31 BOOT0, 32 VSS_2

## TPS543x
designator DA?
="Description"
simulation model Model Name (Model Description)
pins: 1 Boot, 2 NC, 3 NC, 4 Vsense, 5 Ena, 6 Gnd, 7 Vin, 8 PH

## TPS63700
designator DD?
="Description"
pins: 1 COMP, 2 GND, 3 VIN, 4 EN, 5 IN, 6 SW, 7 PS_GND, 8 OUT, 9 FB, 10 VREF

## TPS77601PWP
designator D?
="Description"
pins: 1 GND/HSINK_2, 2 GND/HSINK_3, 3 GND, 4 NC_2, 5 ~{EN}, 6 IN_2, 7 IN, 8 NC_3, 9 GND/HSINK_4, 10 GND/HSINK_5, 11 GND/HSINK_6, 12 GND/HSINK_7, 13 OUT_2, 14 OUT, 15 FB/NC, 16 ~{RESET/}PG, 17 NC_4, 18 NC, 19 GND/HSINK_8, 20 GND/HSINK, 21 EP

## TS5A22364
designator DD?
="Description"
pins: 1 Vcc, 2 NO1 (io), 3 COM1 (io), 4 NC1 (io), 5 In1 (in), 6 Gnd, 7 In2 (in), 8 NC2 (io), 9 COM2 (io), 10 NO2 (io), 11 EP

## UCC27710
designator DA?
="Description"
simulation model Model Name (Model Description)
pins: 1 VDD, 2 HI, 3 LI, 4 COM, 5 LO, 6 HS, 7 HO, 8 HB

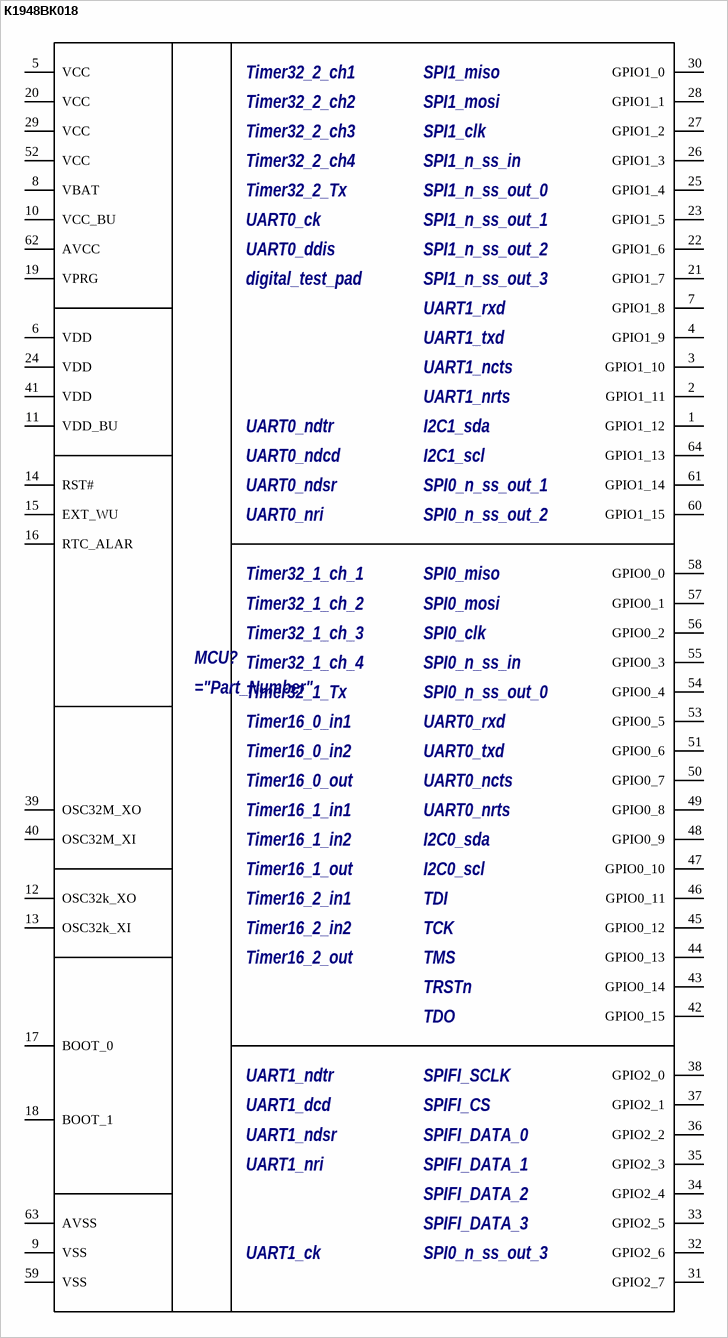
[diagram p7: symbol К1948ВК018]

## К1948ВК018
designator MCU?
="Description"
pins: 1 GPIO1_12, 2 GPIO1_11, 3 GPIO1_10, 4 GPIO1_9, 5 VCC, 6 VDD, 7 GPIO1_8, 8 VBAT, 9 VSS, 10 VCC_BU, 11 VDD_BU, 12 OSC32k_XO, 13 OSC32k_XI, 14 RST#, 15 EXT_WU, 16 RTC_ALAR, 17 BOOT_0, 18 BOOT_1, 19 VPRG, 20 VCC, 21 GPIO1_7, 22 GPIO1_6, 23 GPIO1_5, 24 VDD, 25 GPIO1_4, 26 GPIO1_3, 27 GPIO1_2, 28 GPIO1_1, 29 VCC, 30 GPIO1_0, 31 GPIO2_7, 32 GPIO2_6, 33 GPIO2_5, 34 GPIO2_4, 35 GPIO2_3, 36 GPIO2_2, 37 GPIO2_1, 38 GPIO2_0, 39 OSC32M_XO, 40 OSC32M_XI, 41 VDD, 42 GPIO0_15, 43 GPIO0_14, 44 GPIO0_13, 45 GPIO0_12, 46 GPIO0_11, 47 GPIO0_10, 48 GPIO0_9, 49 GPIO0_8, 50 GPIO0_7, 51 GPIO0_6, 52 VCC, 53 GPIO0_5, 54 GPIO0_4, 55 GPIO0_3, 56 GPIO0_2, 57 GPIO0_1, 58 GPIO0_0, 59 VSS, 60 GPIO1_15, 61 GPIO1_14, 62 AVCC, 63 AVSS, 64 GPIO1_13
text: Timer32_2_ch1; SPI1_miso; Timer32_2_ch2; SPI1_mosi; Timer32_2_ch3; SPI1_clk; Timer32_2_ch4; SPI1_n_ss_in; Timer32_2_Tx; SPI1_n_ss_out_0; UART0_ck; SPI1_n_ss_out_1; UART0_ddis; SPI1_n_ss_out_2; digital_test_pad; SPI1_n_ss_out_3; UART1_rxd; UART1_txd; UART1_ncts; UART1_nrts; UART0_ndtr; I2C1_sda; UART0_ndcd; I2C1_scl; UART0_ndsr; SPI0_n_ss_out_1; UART0_nri; SPI0_n_ss_out_2; Timer32_1_ch_1; SPI0_miso; Timer32_1_ch_2; SPI0_mosi; Timer32_1_ch_3; SPI0_clk; Timer32_1_ch_4; SPI0_n_ss_in; Timer32_1_Tx; SPI0_n_ss_out_0; Timer16_0_in1; UART0_rxd; Timer16_0_in2; UART0_txd; Timer16_0_out; UART0_ncts; Timer16_1_in1; UART0_nrts; Timer16_1_in2; I2C0_sda; Timer16_1_out; I2C0_scl; Timer16_2_in1; TDI; Timer16_2_in2; TCK; Timer16_2_out; TMS; TRSTn; TDO; UART1_ndtr; SPIFI_SCLK; UART1_dcd; SPIFI_CS; UART1_ndsr; SPIFI_DATA_0; UART1_nri; SPIFI_DATA_1; SPIFI_DATA_2; SPIFI_DATA_3; UART1_ck; SPI0_n_ss_out_3